# Altium schematic symbol library STN061050BL40.SchLib: 1 symbol
Pins are listed as number, name and electrical type; pins without a type are passive.

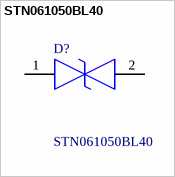
[diagram p0: symbol STN061050BL40]

## STN061050BL40
designator D?
23V Clamp 5A (8/20s) Ipp Tvs Diode Surface Mount DFN0603-2L; Manufacturer_Name: Eaton; Geometry.Height: 0.33mm; TME Electronic Components Part Number: *; TME Electronic Components Price/Stock: *; Manufacturer_Part_Number: STN061050BL40; Datasheet Link: https://www.eaton.com/content/dam/eaton/products/electronic-components/resources/data-sheet/eaton-stn061050bl40-tvs-diode-esd-suppressor-data-sheet.pdf
footprint STN061050BL40
pins: 1, 2